# Altium integrated library ZYNQ领航者底板.IntLib: 80 symbols
Pins are listed as number, name and electrical type; pins without a type are passive.

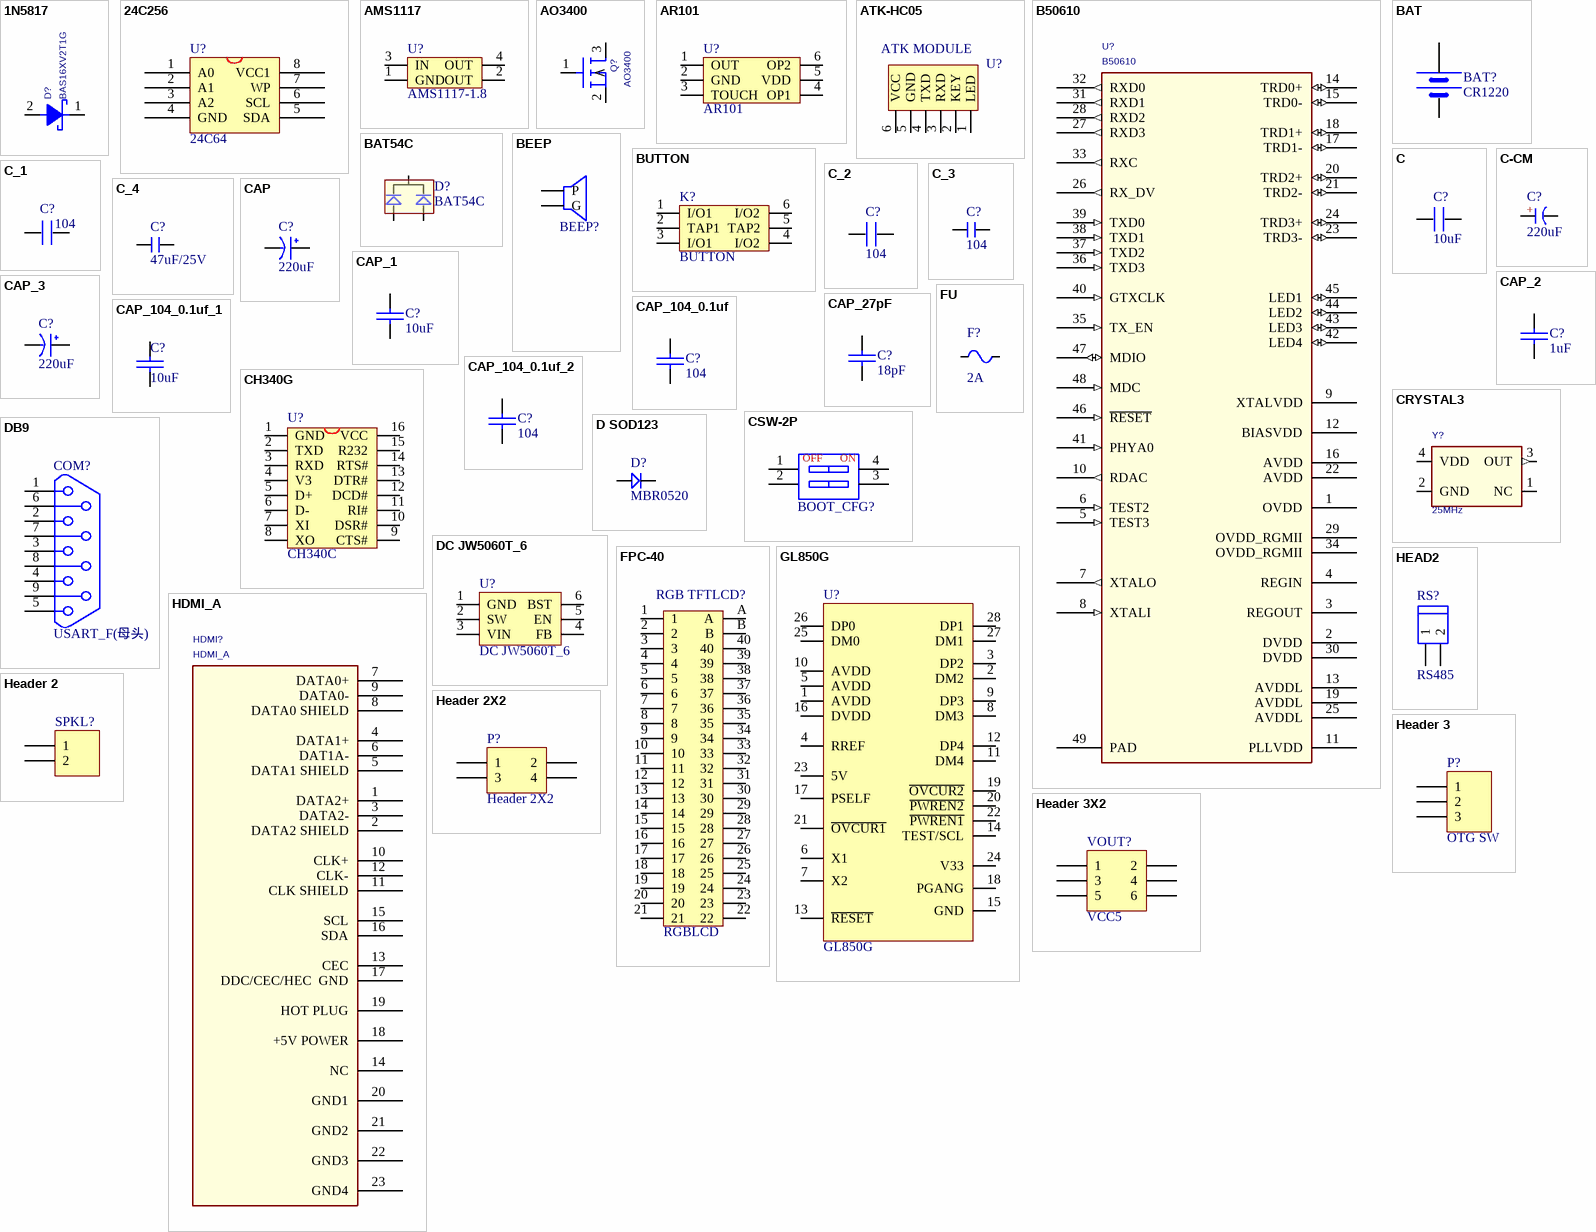
[diagram p0: symbols 1N5817 to Header 3X2]

## 1N5817
designator D?, comment BAS16XV2T1G
footprint D1206
footprint BAS16XV2T1G
pins: 1 C, 2 A

## 24C256
designator U?, comment 24C64
footprint SOP-8 (SOP)
pins: 1 A0, 2 A1, 3 A2, 4 GND, 5 SDA, 6 SCL, 7 WP, 8 VCC1

## AMS1117
designator U?, comment AMS1117-1.8
footprint AMS1117
pins: 1 GND, 2 OUT, 3 IN, 4 OUT

## AO3400
designator Q?
PSpiceTemplate: X^@REFDES %d %g %s @MODEL
footprint SOT23
simulation model AO3400
pins: 1 G, 2 S, 3 D

## AR101
designator U?
单路电容触摸芯片 JL223B
footprint SOT-23-6
pins: 1 OUT, 2 GND, 3 TOUCH, 4 OP1, 5 VDD, 6 OP2

## ATK-HC05
designator U?, comment ATK MODULE
ATK-HC05
footprint HEAD6 (PIN:2.54mm;HEAD;)
pins: 1 LED, 2 KEY, 3 RXD, 4 TXD, 5 GND, 6 VCC

## B50610
designator U?
footprint QFN48_50P7X7X1
footprint QFN48_50P7X7X1_E4
pins: 1 OVDD (power), 2 DVDD (power), 3 REGOUT (power), 4 REGIN (power), 5 TEST3 (in), 6 TEST2 (in), 7 XTALO (out), 8 XTALI (in), 9 XTALVDD (power), 10 RDAC (out), 11 PLLVDD (power), 12 BIASVDD (power), 13 AVDDL (power), 14 TRD0+ (io), 15 TRD0- (io), 16 AVDD (power), 17 TRD1- (io), 18 TRD1+ (io), 19 AVDDL (power), 20 TRD2+ (io), 21 TRD2- (io), 22 AVDD (power), 23 TRD3- (io), 24 TRD3+ (io), 25 AVDDL (power), 26 RX_DV (out), 27 RXD3 (out), 28 RXD2 (out), 29 OVDD_RGMII (power), 30 DVDD (power), 31 RXD1 (out), 32 RXD0 (out), 33 RXC (out), 34 OVDD_RGMII (power), 35 TX_EN (in), 36 TXD3 (in), 37 TXD2 (in), 38 TXD1 (in), 39 TXD0 (in), 40 GTXCLK (in), 41 PHYA0 (in), 42 LED4 (io), 43 LED3 (io), 44 LED2 (io), 45 LED1 (io), 46 ~{RESET} (in), 47 MDIO (io), 48 MDC (in), 49 PAD (power)

## BAT
designator BAT?, comment CR1220
footprint BATM (BAT)
pins: 1 VCC, 2 GND

## BAT54C
designator D?
双肖特基二极管
footprint SOT-23 (SOT-23; 3 Leads; Body 3.0 x 2.5 mm, inc. leads (LxW max))
pins: 1, 2, 3

## BEEP
designator BEEP?
footprint BELL-5 (PIN:5MM,SIZE:10MM)
pins: 1 P, 2 G

## BUTTON
designator K?
footprint BTN8.5*8.5 (8.5MM*8.5MM)
footprint BTN7*7 (7mm*7mm)
pins: 1 I/O1, 2 TAP1, 3 I/O1, 4 I/O2, 5 TAP2, 6 I/O2

## C
designator C?, comment 10uF
footprint C0805
pins: 1, 2

## C-CM
designator C?, comment 220uF
贴片电解电容; 版权归属: 源创客; BOM名称: 贴片电解电容; 学习资源: www.ooocke.com
footprint CM A(3*5.4) (贴片电解电容，直径3mm，高5.4mm)
footprint CM B(4*5.4) (贴片电解电容，直径4mm，高5.4mm)
footprint CM C(5*5.4) (贴片电解电容，直径5mm，高5.4mm)
footprint CM D(6.3*5.4) (贴片电解电容，直径6.3mm，高5.4mm)
footprint CM D(6.3*7.7) (贴片电解电容，直径6.3mm，高7.7mm)
footprint CM E(8*6.2) (贴片电解电容，直径8mm，高6.2mm)
footprint CM E(8*10.2) (贴片电解电容，直径8mm，高10.2mm)
footprint CM F(10*10.2) (贴片电解电容，直径10mm，高10.2mm)
footprint CM G(12.5*13.5) (贴片电解电容，直径12.5mm，高13.5mm)
footprint CM G(12.5*16) (贴片电解电容，直径12.5mm，高16mm)
footprint CM H(16*16.5) (贴片电解电容，直径16mm，高16.5mm)
pins: 1 A, 2 K
text: +

## C_1
designator C?, comment 104
footprint 0402
footprint 0603P
pins: 1, 2

## C_2
designator C?, comment 104
footprint 0603P
pins: 1, 2

## C_3
designator C?, comment 104
无极性贴片电容; 版权归属: 源创客; BOM名称: 无极性贴片电容; 学习资源: www.ooocke.com
footprint C 0201 (无极性贴片电容)
footprint C 0402 (无极性贴片电容)
footprint C 0603 (无极性贴片电容)
footprint C 0805 (无极性贴片电容)
footprint C 1206 (无极性贴片电容)
footprint C 1210 (无极性贴片电容)
footprint C 1808 (无极性贴片电容)
footprint C 1812 (无极性贴片电容)
footprint C 1825 (无极性贴片电容)
footprint C 2225 (无极性贴片电容)
pins: 1, 2

## C_4
designator C?, comment 47uF/25V
无极性贴片电容; 版权归属: 源创客; BOM名称: 无极性贴片电容; 学习资源: www.ooocke.com
footprint C 0201 (无极性贴片电容)
footprint C 0402 (无极性贴片电容)
footprint C 0603 (无极性贴片电容)
footprint C 0805 (无极性贴片电容)
footprint C1206
footprint C 1210 (无极性贴片电容)
footprint C 1808 (无极性贴片电容)
footprint C 1812 (无极性贴片电容)
footprint C 1825 (无极性贴片电容)
footprint C 2225 (无极性贴片电容)
pins: 1, 2

## CAP
designator C?, comment 220uF
footprint CM D(6.3*5.4)
pins: 1 VCC, 2 GND

## CAP_1
designator C?, comment 10uF
footprint C0805
pins: 1, 2

## CAP_2
designator C?, comment 1uF
footprint 0402
footprint 0603P
pins: 1, 2

## CAP_3
designator C?, comment 220uF
footprint CC6.56.5 (SMD;W:6.5mm;L:6.5mm;)
footprint CM D(6.3*5.4)
pins: 1 VCC, 2 GND

## CAP_27pF
designator C?, comment 18pF
footprint 0402
footprint 0603P
pins: 1, 2

## CAP_104_0.1uf
designator C?, comment 104
footprint 0402
footprint 0603P
pins: 1, 2

## CAP_104_0.1uf_1
designator C?, comment 10uF
footprint C0805
pins: 1, 2

## CAP_104_0.1uf_2
designator C?, comment 104
footprint 0603P
pins: 1, 2

## CH340G
designator U?, comment CH340C
USB2UART
footprint SOP16M (Small Outline; 16 Leads; Body Width 3.9 mm; Pitch 1.27 mm)
pins: 1 GND, 2 TXD, 3 RXD, 4 V3, 5 D+, 6 D-, 7 XI, 8 XO, 9 CTS#, 10 DSR#, 11 RI#, 12 DCD#, 13 DTR#, 14 RTS#, 15 R232, 16 VCC

## CRYSTAL3
designator Y?, comment 25MHz
footprint CRY2520_4
footprint XTAL3225
pins: 1 NC, 2 GND (power), 3 OUT (out), 4 VDD (power)

## CSW-2P
designator BOOT_CFG?  (value not drawn)
2路编码开关; BOM名称: 8路编码开关; 版权归属: 源创客; 学习资源: www.ooocke.com
footprint CSW DIP-2P
pins: 1, 2, 3, 4
text: OFF; ON

## D SOD123
designator D?, comment MBR0520
SOD123封装二极管; BOM名称: 高速开关二极管; 版权归属: 源创客; 学习资源: www.ooocke.com
footprint SOD-123
footprint SOD-123F (2.7x1.6X1.1mm（长宽高，不包括引脚）)
pins: 1 A, 2 K

## DB9
designator COM?, comment USART_F(母头)
footprint DB9
pins: 1, 2, 3, 4, 5, 6, 7, 8, 9
2 alternate drawings of the same symbol

## DC JW5060T_6
designator U?
DC降压芯片
footprint SOT23-6L (3x1.6x1.1mm(长宽高))
footprint SOT23-6M (3x1.6x1.1mm(长宽高))
footprint SOT23-6N (3x1.6x1.1mm(长宽高))
pins: 1 GND, 2 SW, 3 VIN, 4 FB, 5 EN, 6 BST

## FPC-40
designator RGB TFTLCD?, comment RGBLCD
FPC-40P-0.5mm
footprint FPC-TOP40 (FPCTOP;0.5mm;)
pins: 1, 2, 3, 4, 5, 6, 7, 8, 9, 10, 11, 12, 13, 14, 15, 16, 17, 18, 19, 20, 21, 22, 23, 24, 25, 26, 27, 28, 29, 30, 31, 32, 33, 34, 35, 36, 37, 38, 39, 40, A, B

## FU
designator F?, comment 2A
贴片保险丝; 版权归属: 源创客; BOM名称: 贴片保险丝; 学习资源: www.ooocke.com
footprint FU 0402 (贴片保险丝)
footprint FU 0603 (贴片保险丝)
footprint FU 0805 (贴片保险丝)
footprint FU 1206 (贴片保险丝)
footprint FU 1210 (贴片保险丝)
footprint FU 1812 (贴片保险丝)
pins: 1, 2

## GL850G
designator U?
footprint SSOP28_L
pins: 1 AVDD, 2 DM2, 3 DP2, 4 RREF, 5 AVDD, 6 X1, 7 X2, 8 DM3, 9 DP3, 10 AVDD, 11 DM4, 12 DP4, 13 ~{RESET}, 14 TEST/SCL, 15 GND, 16 DVDD, 17 PSELF, 18 PGANG, 19 ~{OVCUR2}, 20 ~{PWREN2}, 21 ~{OVCUR1}, 22 ~{PWREN1}, 23 5V, 24 V33, 25 DM0, 26 DP0, 27 DM1, 28 DP1

## HDMI_A
designator HDMI?
footprint hdmi_dip_ra
footprint HDMI_SMD_A
pins: 1 DATA2+, 2 DATA2 SHIELD, 3 DATA2-, 4 DATA1+, 5 DATA1 SHIELD, 6 DAT1A-, 7 DATA0+, 8 DATA0 SHIELD, 9 DATA0-, 10 CLK+, 11 CLK SHIELD, 12 CLK-, 13 CEC, 14 NC, 15 SCL, 16 SDA, 17 DDC/CEC/HEC  GND, 18 +5V POWER, 19 HOT PLUG, 20 GND1, 21 GND2, 22 GND3, 23 GND4

## HEAD2
designator RS?, comment RS485
footprint HEAD2H (HEAD5.08)
footprint HEAD2L (HEAD5.08)
footprint HEAD2L-0.8 (10.16mm*10.16mm,pin:5.08mm)
footprint HEAD2W (2EDG-2,pin:5.08mm)
pins: 1, 2

## Header 2
designator SPKL?, comment SPKL  (value not drawn)
Header, 2-Pin; LatestRevisionDate: 17-Jul-2002; LatestRevisionNote: Re-released for DXP Platform.; Publisher: Altium Limited
footprint HDR1X2 (Connector; Header; 2 Position)
signal-integrity model Connector
footprint XH2.54-2P_H
pins: 1, 2

## Header 2X2
designator P?
Header, 2-Pin, Dual row; LatestRevisionDate: 17-Jul-2002; LatestRevisionNote: Re-released for DXP Platform.; Publisher: Altium Limited
footprint HDR2X2 (Connector; Header; 2x2 Position)
signal-integrity model Connector
pins: 1, 2, 3, 4

## Header 3
designator P?, comment OTG SW
Header, 3-Pin; LatestRevisionDate: 17-Jul-2002; LatestRevisionNote: Re-released for DXP Platform.; Publisher: Altium Limited
footprint HDR1X3 (Connector; Header; 4 Position)
signal-integrity model Connector
pins: 1, 2, 3

## Header 3X2
designator VOUT?, comment VCC5
Header, 3-Pin, Dual row; LatestRevisionDate: 17-Jul-2002; LatestRevisionNote: Re-released for DXP Platform.; Publisher: Altium Limited
footprint HDR2X3 (Connector; Header; 3x2 Position)
pins: 1, 2, 3, 4, 5, 6

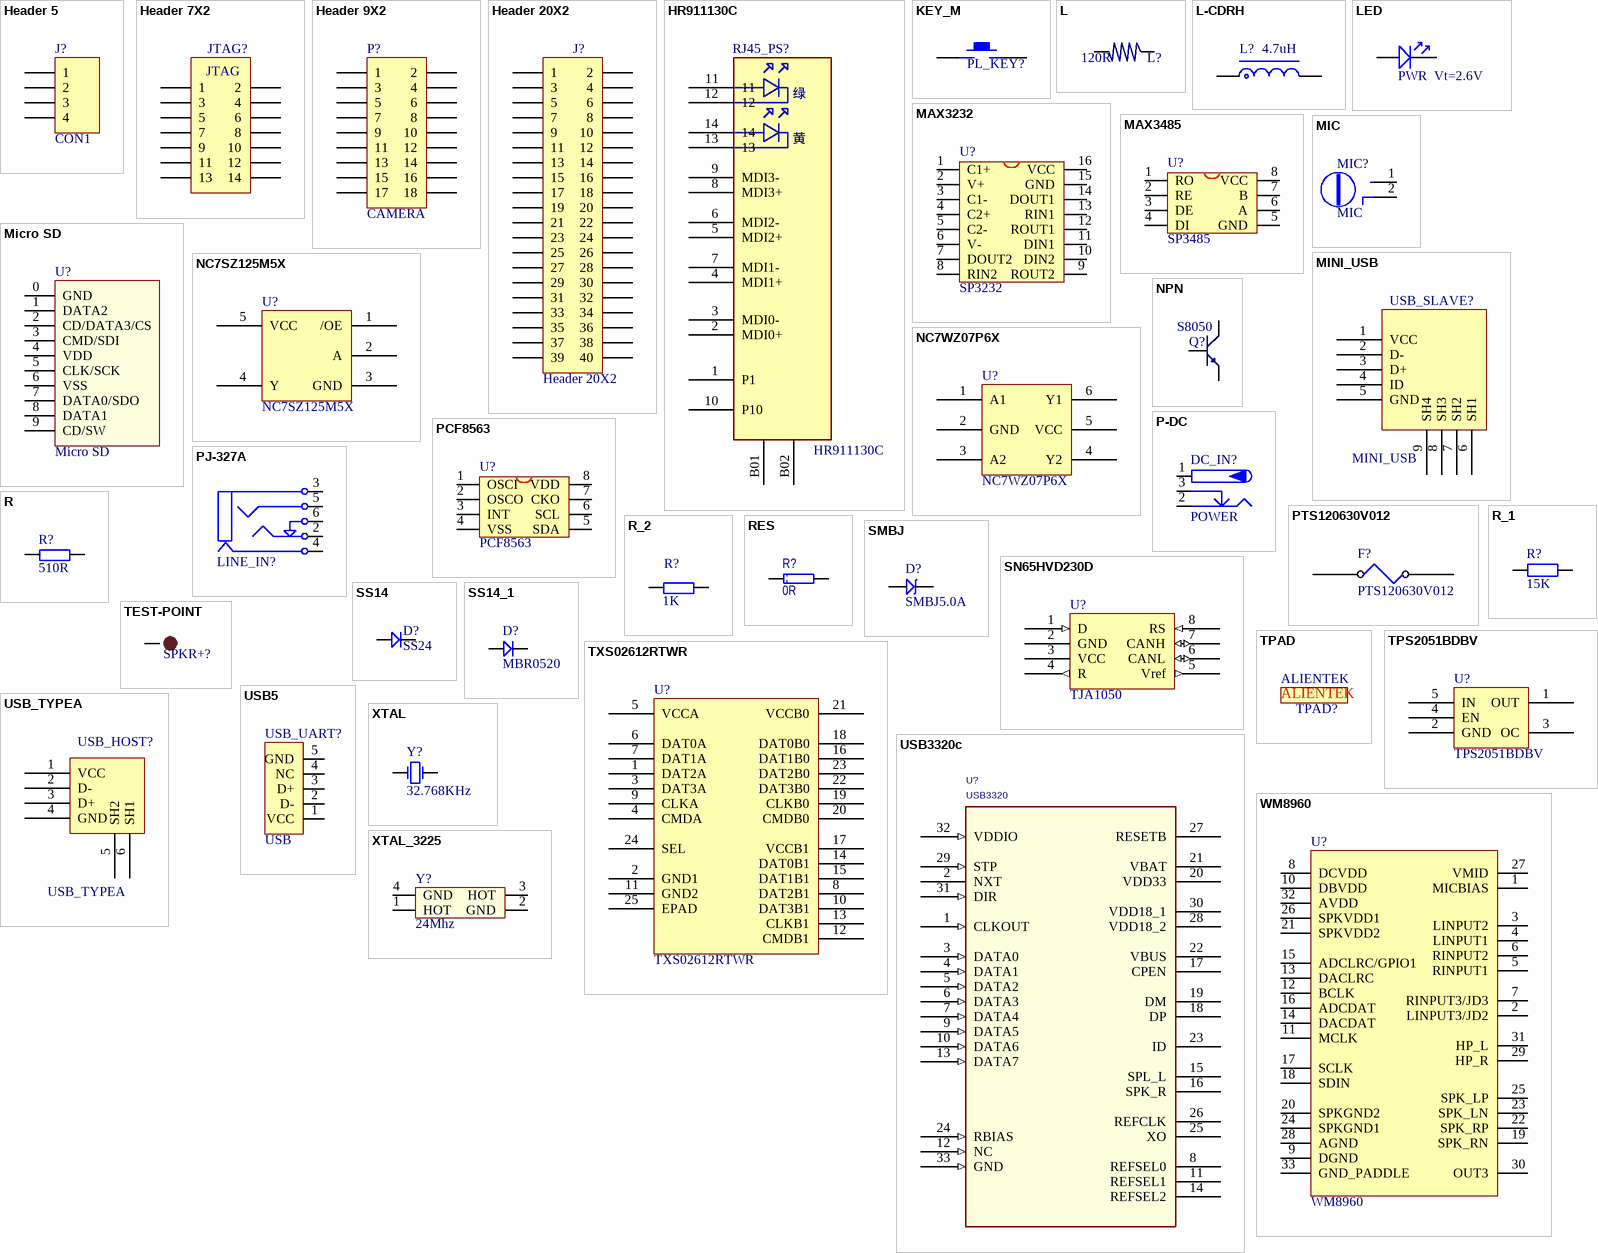
[diagram p1: symbols Header 5 to XTAL_3225]

## Header 5
designator J?, comment CON1
Header, 4-Pin; Publisher: Altium Limited; LatestRevisionDate: 17-Jul-2002; LatestRevisionNote: Re-released for DXP Platform.
footprint HDR1X4 (Connector; Header; 5 Position)
signal-integrity model Connector
pins: 1, 2, 3, 4

## Header 7X2
designator JTAG?, comment JTAG  (value not drawn)
2*7公牛角座,Pin间距2.54mm; Publisher: Altium Limited; LatestRevisionDate: 17-Jul-2002; LatestRevisionNote: Re-released for DXP Platform.
footprint DC3_14P_2*7_DIP
signal-integrity model Connector
pins: 1, 2, 3, 4, 5, 6, 7, 8, 9, 10, 11, 12, 13, 14

## Header 9X2
designator P?, comment CAMERA
Header, 9-Pin, Dual row; LatestRevisionDate: 17-Jul-2002; LatestRevisionNote: Re-released for DXP Platform.; Publisher: Altium Limited
footprint HDR2X9 (Connector; Header; 9x2 Position)
pins: 1, 2, 3, 4, 5, 6, 7, 8, 9, 10, 11, 12, 13, 14, 15, 16, 17, 18

## Header 20X2
designator J?
Header, 20-Pin, Dual row; Publisher: Altium Limited; LatestRevisionDate: 17-Jul-2002; LatestRevisionNote: Re-released for DXP Platform.
footprint HDR2x20 (Connector; Header; 20x2 Position)
signal-integrity model Connector
pins: 1, 2, 3, 4, 5, 6, 7, 8, 9, 10, 11, 12, 13, 14, 15, 16, 17, 18, 19, 20, 21, 22, 23, 24, 25, 26, 27, 28, 29, 30, 31, 32, 33, 34, 35, 36, 37, 38, 39, 40

## HR911130C
designator RJ45_PS?
RJ45 + MAG
footprint GE_RJ45
pins: 1 P1, 2 MDI0+, 3 MDI0-, 4 MDI1+, 5 MDI2+, 6 MDI2-, 7 MDI1-, 8 MDI3+, 9 MDI3-, 10 P10, 11, 12, 13, 14, B01, B02
text: 绿; 黄

## KEY_M
designator PL_KEY?  (value not drawn)
footprint KEY_M (KEY_MID)
footprint KEY_2 (KEY?)
footprint KEY_SOP_BG (KEY?)
pins: 1, 2

## L
designator L?, comment 120R
footprint 0603P
pins: 1, 2

## L-CDRH
designator L?, comment 4.7uH
功率屏蔽电感; 版权归属: 源创客; BOM名称: 功率屏蔽电感; 学习资源: www.ooocke.com
footprint CDRH73 (7.3*7.3*3.4mm（长宽高）)
footprint CDRH74 (7.3*7.3*4.5mm（长宽高）)
footprint CDRH124 (12*12*4.5mm（长宽高）)
footprint CDRH125 (12*12*5mm（长宽高）)
footprint CDRH127 (12*12*8mm（长宽高）)
footprint CDRH129 (12*12*9.5mm（长宽高）)
footprint L-SMD-0420
pins: 1, 2

## LED
designator PWR?, comment PWR  Vt=2.6V
footprint SMDLED-0805 (0805)
pins: 1, 2

## MAX3232
designator U?, comment SP3232
footprint SOP16M
pins: 1 C1+, 2 V+, 3 C1-, 4 C2+, 5 C2-, 6 V-, 7 DOUT2, 8 RIN2, 9 ROUT2, 10 DIN2, 11 DIN1, 12 ROUT1, 13 RIN1, 14 DOUT1, 15 GND, 16 VCC

## MAX3485
designator U?, comment SP3485
footprint SOP-8 (SOP)
pins: 1 RO, 2 RE, 3 DE, 4 DI, 5 GND, 6 A, 7 B, 8 VCC

## MIC
designator MIC?
footprint MIC-6022 (6mm*2.2mm)
pins: 1 VCC, 2 GND
1 alternate drawing of the same symbol

## Micro SD
designator U?
Micro SD卡; 版权归属: 源创客; BOM名称: Micro SD卡; 学习资源: www.ooocke.com
footprint Micro SD
pins: 0 GND, 1 DATA2, 2 CD/DATA3/CS, 3 CMD/SDI, 4 VDD, 5 CLK/SCK, 6 VSS, 7 DATA0/SDO, 8 DATA1, 9 CD/SW

## MINI_USB
designator USB_SLAVE?
footprint USB/SM0.8-6H5
pins: 1 VCC, 2 D-, 3 D+, 4 ID, 5 GND, 6 SH1, 7 SH2, 8 SH3, 9 SH4

## NC7SZ125M5X
designator U?
footprint NC7SZ125M5X
pins: 1 /OE, 2 A, 3 GND, 4 Y, 5 VCC

## NC7WZ07P6X
designator U?
footprint NC7WZ07P6X
pins: 1 A1, 2 GND, 3 A2, 4 Y2, 5 VCC, 6 Y1

## NPN
designator Q?, comment S8050
8050/BCW846/BCW847
footprint SOT-23R (SOT-23; 3 Leads; Body 3.0 x 2.5 mm, inc. leads (LxW max))
footprint NPN
pins: 1 E, 2 B, 3 C

## P-DC
designator DC_IN?, comment POWER
低压电源接口; BOM名称: DC电源接口; 版权归属: 源创客; 学习资源: www.ooocke.com
footprint DC-012 (5.5*2.1)
footprint DC-005 (5.5*2.1mm，DC30V,2.5A)
footprint DC-002 (3.5*1.1mm,)
footprint DC-003 (3.5*1.1mm)
footprint DC-003A (3.5*1.1mm)
footprint DC-050 (5.5*2.1)
footprint DC10B
pins: 1 (power), 2 (power), 3 (power)

## PCF8563
designator U?
时钟芯片
footprint SOP-8 (SOP)
pins: 1 OSCI, 2 OSCO, 3 INT, 4 VSS, 5 SDA, 6 SCL, 7 CKO, 8 VDD

## PJ-327A
designator LINE_IN?  (value not drawn)
footprint PJ327A
pins: 2, 3 1, 4, 5, 6

## PTS120630V012
designator F?
footprint 1206
pins: 1, 2

## R
designator R?, comment 510R
footprint 0402
footprint 0603P
pins: 1, 2

## R_1
designator R?, comment 15K
贴片电阻; 版权归属: 源创客; BOM名称: 贴片电阻; 学习资源: www.ooocke.com
footprint R 0201 (1/20W贴片电阻)
footprint R 0201-HP (1/20W高精度贴片电阻)
footprint R 0402 (1/16W贴片电阻)
footprint R 0402-HP (1/16W高精度贴片电阻)
footprint R 0603 (1/10W贴片电阻)
footprint R 0603-HP (1/10W高精度贴片电阻)
footprint R 0805 (1/8W贴片电阻)
footprint R 0805-HP (1/8W高精度贴片电阻)
footprint R 1206 (1/4W贴片电阻)
footprint R 1206-HP (1/4W高精度贴片电阻)
footprint R 1210 (1/3W贴片电阻)
footprint R 1210-HP (1/3W高精度贴片电阻)
footprint R 1812 (1/2W贴片电阻)
footprint R 1812-HP (1/2W高精度贴片电阻)
footprint R 2010 (3/4W贴片电阻)
footprint R 2010-HP (3/4W高精度贴片电阻)
footprint R 2512 (1W贴片电阻)
footprint R 2512-HP (1W高精度贴片电阻)
footprint R 2728-HP (4W高精度贴片电阻)
footprint LR 2725 (4W高精度贴片电阻)
pins: 1, 2

## R_2
designator R?, comment 1K
footprint 0805
footprint 0603P
pins: 1, 2

## RES
designator R?, comment 0R
footprint 0402
footprint 0603P
pins: 1, 2

## SMBJ
designator D?, comment SMBJ5.0A
TVS
footprint smbj (3.6*5.4)
pins: 1, 2

## SN65HVD230D
designator U?, comment TJA1050
footprint SOP-8
footprint SO8
pins: 1 D (in), 2 GND (power), 3 VCC (power), 4 R (out), 5 Vref (out), 6 CANL (io), 7 CANH (io), 8 RS (in)
2 alternate drawings of the same symbol

## SS14
designator D?, comment SS24
肖特基二极管; 版权归属: 源创客; 属性: 40V/1A; BOM名称: 肖特基二极管; 学习资源: www.ooocke.com
footprint SMA (4.5x2.6*2.2mm（长宽高，不包括引脚）)
footprint SOD-123 (2.7x1.6X1.1mm（长宽高，不包括引脚）)
footprint SOD-123F (2.7x1.6X1.1mm（长宽高，不包括引脚）)
footprint SOD-323 (1.8x1.3X0.9mm（长宽高，不包括引脚）)
footprint SOD-523 (1.2x0.8X0.6mm（长宽高，不包括引脚）)
pins: 1 A, 2 K

## SS14_1
designator D?, comment MBR0520
肖特基二极管; 版权归属: 源创客; 属性: 40V/1A; BOM名称: 肖特基二极管; 学习资源: www.ooocke.com
footprint SMA (4.5x2.6*2.2mm（长宽高，不包括引脚）)
footprint SOD-123 (2.7x1.6X1.1mm（长宽高，不包括引脚）)
footprint SOD-123F (2.7x1.6X1.1mm（长宽高，不包括引脚）)
footprint SOD-323 (1.8x1.3X0.9mm（长宽高，不包括引脚）)
footprint SOD-523 (1.2x0.8X0.6mm（长宽高，不包括引脚）)
pins: 1 A, 2 K

## TEST-POINT
designator SPKR+?, comment SPKR+  (value not drawn)
测试点
footprint TP-1.0 (1.0mm)
footprint TP-1.5 (1.5mm)
pins: 1

## TPAD
designator TPAD?, comment ALIENTEK
ALIENTEK TPAD
footprint ALIENTEK_PAD
footprint ALIENTEK_PAD1

## TPS2051BDBV
designator U?
footprint TPS2051BDBV
pins: 1 OUT, 2 GND, 3 OC, 4 EN, 5 IN

## TXS02612RTWR
designator U?
footprint QFN24_RTW
pins: 1 DAT2A, 2 GND1, 3 DAT3A, 4 CMDA, 5 VCCA, 6 DAT0A, 7 DAT1A, 8 DAT2B1, 9 CLKA, 10 DAT3B1, 11 GND2, 12 CMDB1, 13 CLKB1, 14 DAT0B1, 15 DAT1B1, 16 DAT1B0, 17 VCCB1, 18 DAT0B0, 19 CLKB0, 20 CMDB0, 21 VCCB0, 22 DAT3B0, 23 DAT2B0, 24 SEL, 25 EPAD

## USB5
designator USB_UART?, comment USB
footprint USB/SM0.8-6H5
pins: 1 VCC, 2 D-, 3 D+, 4 NC, 5 GND

## USB3320c
designator U?, comment USB3320
USB3320C-EZK
footprint USB3320C
pins: 1 CLKOUT (in), 2 NXT (power), 3 DATA0 (in), 4 DATA1 (in), 5 DATA2 (in), 6 DATA3 (in), 7 DATA4 (in), 8 REFSEL0, 9 DATA5 (in), 10 DATA6 (in), 11 REFSEL1, 12 NC (in), 13 DATA7 (in), 14 REFSEL2, 15 SPL_L, 16 SPK_R, 17 CPEN, 18 DP, 19 DM, 20 VDD33, 21 VBAT, 22 VBUS, 23 ID, 24 RBIAS (in), 25 XO, 26 REFCLK, 27 RESETB, 28 VDD18_2, 29 STP (in), 30 VDD18_1, 31 DIR (in), 32 VDDIO (in), 33 GND (in)

## USB_TYPEA
designator USB_HOST?
footprint USB-A/S_E
pins: 1 VCC, 2 D-, 3 D+, 4 GND, 5 SH2, 6 SH1

## WM8960
designator U?
footprint qfn32 (QFN, 32-Leads, Body 5.0x5.0mm (max), Pitch 0.50mm, IPC Medium Density)
pins: 1 MICBIAS, 2 LINPUT3/JD2, 3 LINPUT2, 4 LINPUT1, 5 RINPUT1, 6 RINPUT2, 7 RINPUT3/JD3, 8 DCVDD, 9 DGND, 10 DBVDD, 11 MCLK, 12 BCLK, 13 DACLRC, 14 DACDAT, 15 ADCLRC/GPIO1, 16 ADCDAT, 17 SCLK, 18 SDIN, 19 SPK_RN, 20 SPKGND2, 21 SPKVDD2, 22 SPK_RP, 23 SPK_LN, 24 SPKGND1, 25 SPK_LP, 26 SPKVDD1, 27 VMID, 28 AGND, 29 HP_R, 30 OUT3, 31 HP_L, 32 AVDD, 33 GND_PADDLE

## XTAL
designator Y?, comment 32.768KHz
普通晶振; Published: 8-Jun-2000; LatestRevisionDate: 17-Jul-2002; LatestRevisionNote: Re-released for DXP Platform.; Publisher: Altium Limited
footprint XTAL32
pins: 1 OSC1, 2 OSC2

## XTAL_3225
designator Y?, comment 24Mhz
3225贴片无源晶振
footprint XTAL3225 (3.2mm*2.5mm)
pins: 1 HOT, 2 GND, 3 HOT, 4 GND

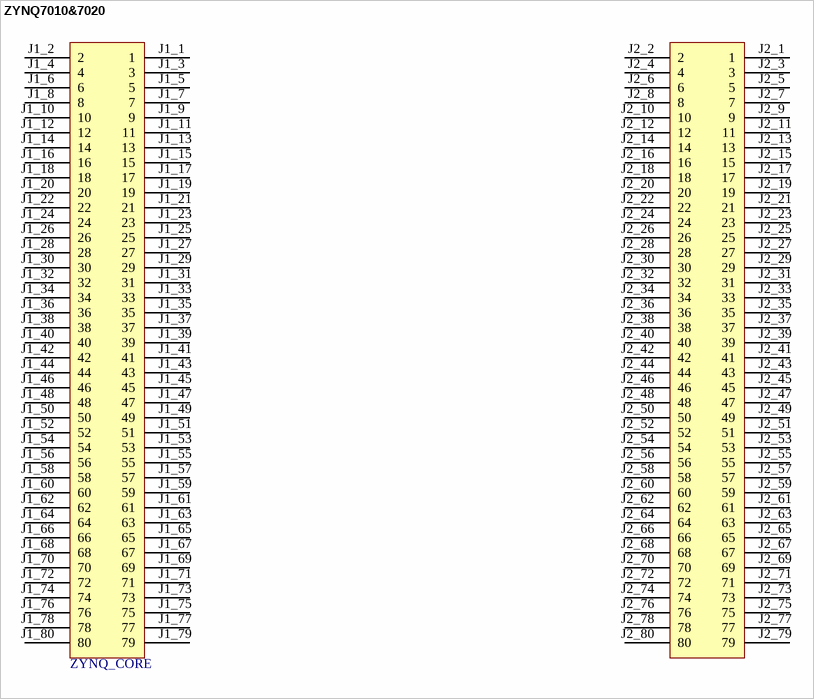
[diagram p2: symbol ZYNQ7010&7020]

## ZYNQ7010&7020
designator M?, comment ZYNQ_CORE
ZYNQ7010&7020 Core Board
footprint ZYNQ7010&7020_CB
pins: J1_1 1, J1_2 2, J1_3 3, J1_4 4, J1_5 5, J1_6 6, J1_7 7, J1_8 8, J1_9 9, J1_10 10, J1_11 11, J1_12 12, J1_13 13, J1_14 14, J1_15 15, J1_16 16, J1_17 17, J1_18 18, J1_19 19, J1_20 20, J1_21 21, J1_22 22, J1_23 23, J1_24 24, J1_25 25, J1_26 26, J1_27 27, J1_28 28, J1_29 29, J1_30 30, J1_31 31, J1_32 32, J1_33 33, J1_34 34, J1_35 35, J1_36 36, J1_37 37, J1_38 38, J1_39 39, J1_40 40, J1_41 41, J1_42 42, J1_43 43, J1_44 44, J1_45 45, J1_46 46, J1_47 47, J1_48 48, J1_49 49, J1_50 50, J1_51 51, J1_52 52, J1_53 53, J1_54 54, J1_55 55, J1_56 56, J1_57 57, J1_58 58, J1_59 59, J1_60 60, J1_61 61, J1_62 62, J1_63 63, J1_64 64, J1_65 65, J1_66 66, J1_67 67, J1_68 68, J1_69 69, J1_70 70, J1_71 71, J1_72 72, J1_73 73, J1_74 74, J1_75 75, J1_76 76, J1_77 77, J1_78 78, J1_79 79, J1_80 80, J2_1 1, J2_2 2, J2_3 3, J2_4 4, J2_5 5, J2_6 6, J2_7 7, J2_8 8, J2_9 9, J2_10 10, J2_11 11, J2_12 12, J2_13 13, J2_14 14, J2_15 15, J2_16 16, J2_17 17, J2_18 18, J2_19 19, J2_20 20, J2_21 21, J2_22 22, J2_23 23, J2_24 24, J2_25 25, J2_26 26, J2_27 27, J2_28 28, J2_29 29, J2_30 30, J2_31 31, J2_32 32, J2_33 33, J2_34 34, J2_35 35, J2_36 36, J2_37 37, J2_38 38, J2_39 39, J2_40 40, J2_41 41, J2_42 42, J2_43 43, J2_44 44, J2_45 45, J2_46 46, J2_47 47, J2_48 48, J2_49 49, J2_50 50, J2_51 51, J2_52 52, J2_53 53, J2_54 54, J2_55 55, J2_56 56, J2_57 57, J2_58 58, J2_59 59, J2_60 60, J2_61 61, J2_62 62, J2_63 63, J2_64 64, J2_65 65, J2_66 66, J2_67 67, J2_68 68, J2_69 69, J2_70 70, J2_71 71, J2_72 72, J2_73 73, J2_74 74, J2_75 75, J2_76 76, J2_77 77, J2_78 78, J2_79 79, J2_80 80